# Altium integrated library DROSSEL_TOR_50X30X20.IntLib: 1 symbol
Pins are listed as number, name and electrical type; pins without a type are passive.

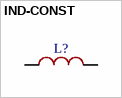
[diagram p0: symbol IND-CONST]

## IND-CONST
designator L?
footprint DROSSEL_TOR_50X30X20
pins: 1, 2